# Altium schematic symbol library Schlib1.SchLib: 7 symbols
Pins are listed as number, name and electrical type; pins without a type are passive.

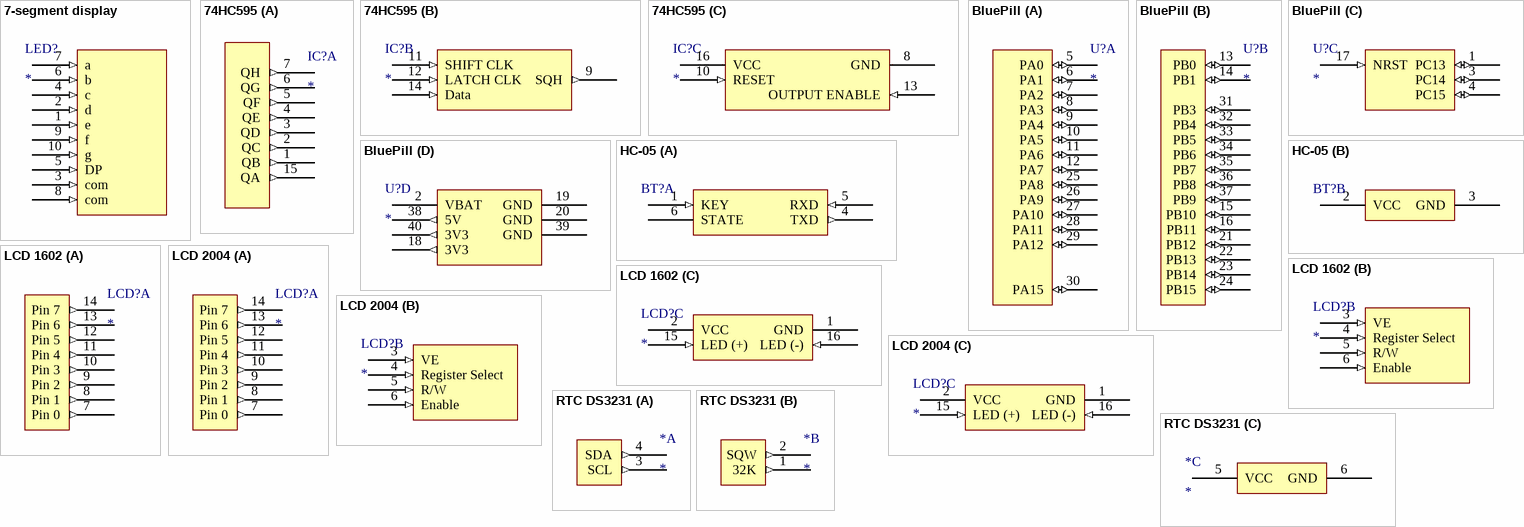
[diagram p0: symbols 7-segment display to RTC DS3231]

## 7-segment display
designator LED?
footprint 7-segments display
pins: 1 e (in), 2 d (in), 3 com (in), 4 c (in), 5 DP (in), 6 b (in), 7 a (in), 8 com (in), 9 f (in), 10 g (in)

## 74HC595
designator IC?
footprint 74HC595
part A pins: 1 QB (out), 2 QC (out), 3 QD (out), 4 QE (out), 5 QF (out), 6 QG (out), 7 QH (out), 15 QA (out)
part B pins: 9 SQH (out), 11 SHIFT CLK (in), 12 LATCH CLK (in), 14 Data (in)
part C pins: 8 GND (power), 10 RESET (in) "Keep high to work", 13 OUTPUT ENABLE (in) "low enable", 16 VCC (power)

## BluePill
designator U?
STM32F103C8T6, mbed-Enabled Development Bluepill STM32F1 ARM® Cortex®-M3 MCU 32-Bit Embedded Evaluation Board
footprint PCBComponent_1
part A pins: 5 PA0 (io), 6 PA1 (io), 7 PA2 (io), 8 PA3 (io), 9 PA4 (io), 10 PA5 (io), 11 PA6 (io), 12 PA7 (io), 25 PA8 (io), 26 PA9 (io), 27 PA10 (io), 28 PA11 (io), 29 PA12 (io), 30 PA15 (io)
part B pins: 13 PB0 (io), 14 PB1 (io), 15 PB10 (io), 16 PB11 (io), 21 PB12 (io), 22 PB13 (io), 23 PB14 (io), 24 PB15 (io), 31 PB3 (io), 32 PB4 (io), 33 PB5 (io), 34 PB6 (io), 35 PB7 (io), 36 PB8 (io), 37 PB9 (io)
part C pins: 1 PC13 (io), 3 PC14 (io), 4 PC15 (io), 17 NRST (in)
part D pins: 2 VBAT (power), 18 3V3 (out), 19 GND (power), 20 GND (power), 38 5V (out), 39 GND (power), 40 3V3 (out)

## HC-05
designator BT?
footprint HC-05
part A pins: 1 KEY (in), 4 TXD (out), 5 RXD (in), 6 STATE
part B pins: 2 VCC (power), 3 GND (power)

## LCD 1602
designator LCD?
footprint LCD1602
part A pins: 7 Pin 0 (out), 8 Pin 1 (out), 9 Pin 2 (out), 10 Pin 3 (out), 11 Pin 4 (out), 12 Pin 5 (out), 13 Pin 6 (out), 14 Pin 7 (out)
part B pins: 3 VE (in) "Decides the contrast level of display. Grounded for maximum contrast", 4 Register Select (in) "Connected to Microcontroller to shift between command/data register", 5 R/W (in) "Used to read or write data. Normally grounded to write data to LCD", 6 Enable (in) "Connected to Microcontroller Pin and toggled between 1 and 0 for data acknowledgement"
part C pins: 1 GND (power), 2 VCC (power), 15 LED (+) (in) "Backlight LED pin positive terminal", 16 LED (-) (in) "Backlight LED pin negative terminal"

## LCD 2004
designator LCD?
footprint LCD2004
part A pins: 7 Pin 0 (out), 8 Pin 1 (out), 9 Pin 2 (out), 10 Pin 3 (out), 11 Pin 4 (out), 12 Pin 5 (out), 13 Pin 6 (out), 14 Pin 7 (out)
part B pins: 3 VE (in) "Decides the contrast level of display. Grounded for maximum contrast", 4 Register Select (in) "Connected to Microcontroller to shift between command/data register", 5 R/W (in) "Used to read or write data. Normally grounded to write data to LCD", 6 Enable (in) "Connected to Microcontroller Pin and toggled between 1 and 0 for data acknowledgement"
part C pins: 1 GND (power), 2 VCC (power), 15 LED (+) (in) "Backlight LED pin positive terminal", 16 LED (-) (in) "Backlight LED pin negative terminal"

## RTC DS3231
designator *
footprint RTC DS3231
part A pins: 3 SCL (out) "Serial Clock pin (I2C interface)", 4 SDA (out) "Serial Data pin (I2C interface)"
part B pins: 1 32K (out) "32K oscillator output", 2 SQW (out) "Square Wave output pin"
part C pins: 5 VCC (power), 6 GND (power)